# EAGLE library part DF37**-30D*-0.4V (library openblw)
PLUG, 1MM, 41WAY
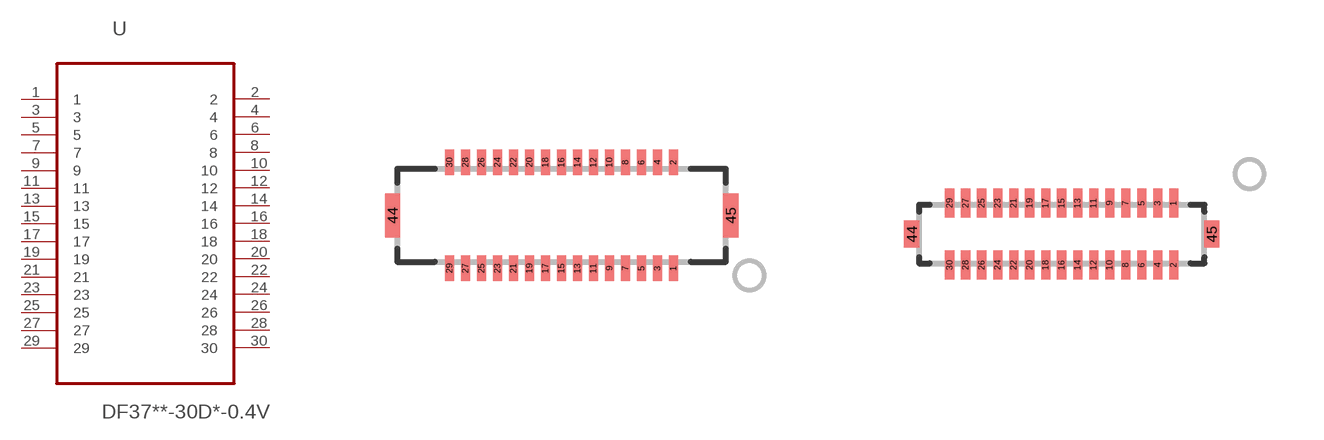
[diagram p8: symbol with the pads of DF37**-30DS-0.4V; footprints DF37**-30DS-0.4V, DF37**-30DP-0.4V]

Designator prefix U

## DF37-30D-0.4V (MPN: DF9-41P-1V(32); OC_FARNELL: 1798383; OC_NEWARK: 74R3384; PACKAGE: PLUG, 1MM, 41WAY; SUPPLIER: Hirose)  [DF37**-30DS-0.4V]
1  1  pas
2  2  pas
3  3  pas
4  4  pas
5  5  pas
6  6  pas
7  7  pas
8  8  pas
9  9  pas
10  10  pas
11  11  pas
12  12  pas
13  13  pas
14  14  pas
15  15  pas
16  16  pas
17  17  pas
18  18  pas
19  19  pas
20  20  pas
21  21  pas
22  22  pas
23  23  pas
24  24  pas
25  25  pas
26  26  pas
27  27  pas
28  28  pas
29  29  pas
30  30  pas

## DF37-30D-0.4VHEADER  [DF37**-30DP-0.4V]
Pads as for DF37**-30DS-0.4V

## Footprint DF37**-30DS-0.4V (pad centres in mm)
smd 0.23 x 0.63: 1 2.8,-1.325; 2 2.8,1.325; 3 2.4,-1.325; 4 2.4,1.325; 5 2,-1.325; 6 2,1.325; 7 1.6,-1.325; 8 1.6,1.325; 9 1.2,-1.325; 10 1.2,1.325; 11 0.8,-1.325; 12 0.8,1.325; 13 0.4,-1.325; 14 0.4,1.325; 15 0,-1.325; 16 0,1.325; 17 -0.4,-1.325; 18 -0.4,1.325; 19 -0.8,-1.325; 20 -0.8,1.325; 21 -1.2,-1.325; 22 -1.2,1.325; 23 -1.6,-1.325; 24 -1.6,1.325; 25 -2,-1.325; 26 -2,1.325; 27 -2.4,-1.325; 28 -2.4,1.325; 29 -2.8,-1.325; 30 -2.8,1.325
smd 0.38 x 1.1: 44 -4.23,0; 45 4.23,0

## Footprint DF37**-30DP-0.4V (pad centres in mm)
smd 0.23 x 0.73: 1 2.8,0.775; 2 2.8,-0.775; 3 2.4,0.775; 4 2.4,-0.775; 5 2,0.775; 6 2,-0.775; 7 1.6,0.775; 8 1.6,-0.775; 9 1.2,0.775; 10 1.2,-0.775; 11 0.8,0.775; 12 0.8,-0.775; 13 0.4,0.775; 14 0.4,-0.775; 15 0,0.775; 16 0,-0.775; 17 -0.4,0.775; 18 -0.4,-0.775; 19 -0.8,0.775; 20 -0.8,-0.775; 21 -1.2,0.775; 22 -1.2,-0.775; 23 -1.6,0.775; 24 -1.6,-0.775; 25 -2,0.775; 26 -2,-0.775; 27 -2.4,0.775; 28 -2.4,-0.775; 29 -2.8,0.775; 30 -2.8,-0.775
smd 0.38 x 0.68: 44 -3.75,0; 45 3.75,0